# Altium schematic symbol library TC7W32F.SchLib: 1 symbol
Pins are listed as number, name and electrical type; pins without a type are passive.

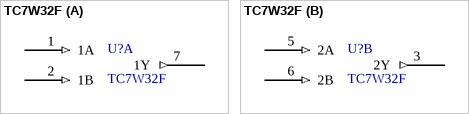
[diagram p0: symbol TC7W32F]

## TC7W32F
designator U?
Dual Package or Gate
footprint SOIC127P600-8AM (SOIC, 8-Leads, Body 4.9x3.9mm, Pitch 1.27mm, IPC Low Density)
part A pins: 1 1A (in), 2 1B (in), 4 GND (power) hidden, 7 1Y (out), 8 VCC (power) hidden
part B pins: 3 2Y (out), 4 GND (power) hidden, 5 2A (in), 6 2B (in), 8 VCC (power) hidden